# Altium schematic symbol library ADC_Klipper_Board_v2.SchLib: 21 symbols
Pins are listed as number, name and electrical type; pins without a type are passive.

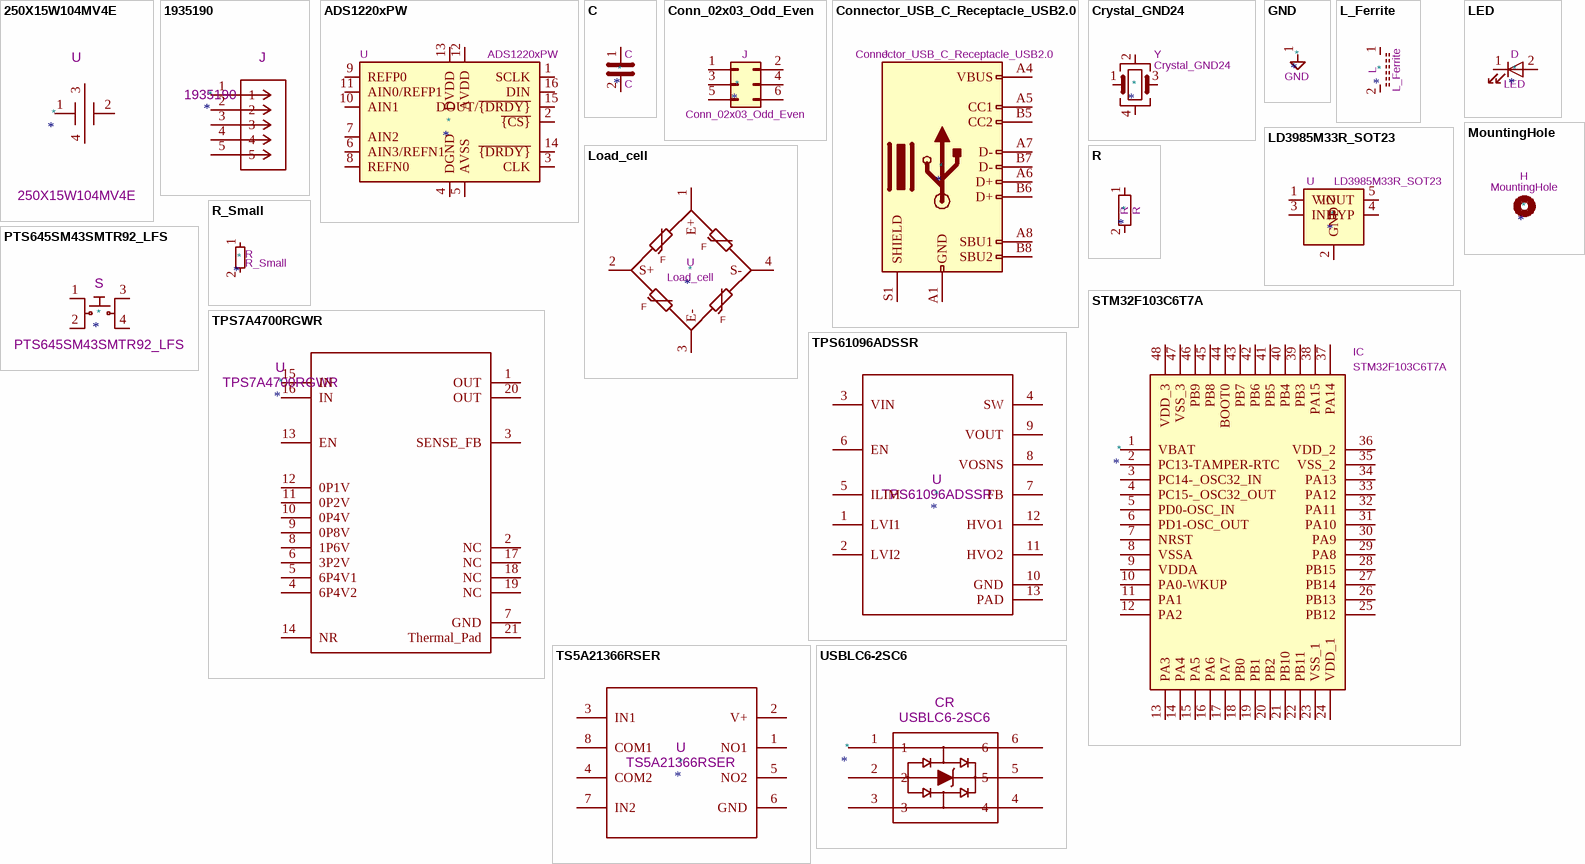
[diagram p0: symbols 250X15W104MV4E to USBLC6-2SC6]

## 250X15W104MV4E
designator *  value 250X15W104MV4E  Reference: U
ki_fp_filters: X15 X15-M X15-L; Footprint: X15; Datasheet: 250X15W104MV4E; ki_keywords: 250X15W104MV4E
pins: 1, 2, 3, 4

## 1935190
designator *  value 1935190  Reference: J
ki_fp_filters: CONN_1935190_PXC; Footprint: CONN_1935190_PXC; Datasheet: 1935190; ki_keywords: 1935190
pins: 1, 2, 3, 4, 5

## ADS1220xPW
designator *  value ADS1220xPW  Reference: U
Low-power, quad-input, 24-bit analog to digital converter, integrated temperature sensor, SPI interface, TSSOP-16 package; ki_keywords: adc spi; ki_fp_filters: *TSSOP*4.4x5mm*P0.65mm*; Footprint: Package_SO:TSSOP-16_4.4x5mm_P0.65mm; Datasheet: http://www.ti.com/lit/ds/symlink/ads1220.pdf; Description_: Low-power, quad-input, 24-bit analog to digital converter, integrated temperature sensor, SPI interface, TSSOP-16 package
pins: 1 SCLK, 2 ~{{CS}}, 3 CLK, 4 DGND, 5 AVSS, 6 AIN3/REFN1, 7 AIN2, 8 REFN0, 9 REFP0, 10 AIN1, 11 AIN0/REFP1, 12 AVDD, 13 DVDD, 14 ~{{DRDY}}, 15 DOUT/~{{DRDY}}, 16 DIN

## C
designator *  value C
Unpolarized capacitor; ki_keywords: cap capacitor; ki_fp_filters: C_*; Reference: C; Datasheet: ~; Description_: Unpolarized capacitor
pins: 1, 2

## Conn_02x03_Odd_Even
designator *  value Conn_02x03_Odd_Even  Reference: J
Generic connector, double row, 02x03, odd/even pin numbering scheme (row 1 odd numbers, row 2 even numbers), script generated (kicad-library-utils/schlib/autogen/connector/); ki_fp_filters: Connector*:*_2x??_*; Datasheet: ~; Description_: Generic connector, double row, 02x03, odd/even pin numbering scheme (row 1 odd numbers, row 2 even numbers), script generated (kicad-library-utils/schlib/autogen/connector/); ki_keywords: connector
pins: 1 Pin_1, 2 Pin_2, 3 Pin_3, 4 Pin_4, 5 Pin_5, 6 Pin_6

## Connector_USB_C_Receptacle_USB2.0
designator *  value Connector_USB_C_Receptacle_USB2.0  Reference: J
ki_fp_filters: USB*C*Receptacle*
pins: A1 GND, A4 VBUS, A5 CC1, A6 D+, A7 D-, A8 SBU1, A9 VBUS hidden, A12 GND hidden, B1 GND hidden, B4 VBUS hidden, B5 CC2, B6 D+, B7 D-, B8 SBU2, B9 VBUS hidden, B12 GND hidden, S1 SHIELD

## Crystal_GND24
designator *  value Crystal_GND24  Reference: Y
Four pin crystal, GND on pins 2 and 4; ki_keywords: quartz ceramic resonator oscillator; ki_fp_filters: Crystal*; Datasheet: ~; Description_: Four pin crystal, GND on pins 2 and 4
pins: 1, 2, 3, 4

## GND
designator *  value GND
Power symbol creates a global label with name "GND" , ground; Reference: #PWR; ki_keywords: global power; Description_: Power symbol creates a global label with name "GND" , ground
pins: 1

## L_Ferrite
designator *  value L_Ferrite  Reference: L
Inductor with ferrite core; ki_keywords: inductor choke coil reactor magnetic; ki_fp_filters: Choke_* *Coil* Inductor_* L_*; Datasheet: ~; Description_: Inductor with ferrite core
pins: 1, 2

## LD3985M33R_SOT23
designator *  value LD3985M33R_SOT23  Reference: U
150mA Low Dropout Voltage Regulator, Fixed Output 3.3V, SOT-23-5; ki_keywords: 150mA LDO Regulator Fixed Positive; ki_fp_filters: SOT?23*; Footprint: Package_TO_SOT_SMD:SOT-23-5; Datasheet: http://www.st.com/internet/com/TECHNICAL_RESOURCES/TECHNICAL_LITERATURE/DATASHEET/CD00003395.pdf; Description_: 150mA Low Dropout Voltage Regulator, Fixed Output 3.3V, SOT-23-5
pins: 1 VIN, 2 GND, 3 INH, 4 BYP, 5 VOUT

## LED
designator *  value LED  Reference: D
Light emitting diode; ki_keywords: LED diode; ki_fp_filters: LED* LED_SMD:* LED_THT:*; Datasheet: ~; Description_: Light emitting diode
pins: 1 K, 2 A

## Load_cell
designator *  value Load_cell  Reference: U
4-wire load cell for weigh scales; ki_keywords: Wheatstone bridge R res resistor FSR sensor; Datasheet: http://www.robotshop.com/media/files/pdf/datasheet-3134.pdf; Description_: 4-wire load cell for weigh scales
pins: 1 E+, 2 S+, 3 E-, 4 S-
text: F

## MountingHole
designator *  value MountingHole  Reference: H
Mounting Hole without connection; ki_fp_filters: MountingHole*; Datasheet: ~; Description_: Mounting Hole without connection; ki_keywords: mounting hole

## PTS645SM43SMTR92_LFS
designator *  value PTS645SM43SMTR92_LFS  Reference: S
SWITCH TACTILE SPST-NO 0.05A 12V; MPN: PTS645SM43SMTR92 LFS; Manufacturer: C&K; DK_Detail_Page: /product-detail/en/c-k/PTS645SM43SMTR92-LFS/CKN9112CT-ND/1146934; ki_keywords: CKN9112CT-ND PTS645; Footprint: digikey-footprints:Switch_Tactile_SMD_6x6mm_PTS645; Datasheet: https://www.ckswitches.com/media/1471/pts645.pdf; Description_: SWITCH TACTILE SPST-NO 0.05A 12V; Digi-Key_PN: CKN9112CT-ND; Category: Switches; Family: Tactile Switches; DK_Datasheet_Link: https://www.ckswitches.com/media/1471/pts645.pdf; Description_1: SWITCH TACTILE SPST-NO 0.05A 12V; Status: Active
pins: 1, 2, 3, 4

## R
designator *  value R
Resistor; ki_keywords: R res resistor; ki_fp_filters: R_*; Reference: R; Datasheet: ~; Description_: Resistor
pins: 1, 2

## R_Small
designator *  value R_Small  Reference: R
Resistor, small symbol; ki_keywords: R resistor; ki_fp_filters: R_*; Datasheet: ~; Description_: Resistor, small symbol
pins: 1, 2

## STM32F103C6T7A
designator *  value STM32F103C6T7A  Reference: IC
STM32F103C6T7A, 32 bit ARM Cortex M3 Microcontroller 72MHz 32 kB Flash, 10 kB RAM, USB CAN I2C 48-Pin LQFP; Manufacturer_Name: STMicroelectronics; Footprint: QFP50P900X900X160-48N; Datasheet: http://www.st.com/st-web-ui/static/active/en/resource/technical/document/datasheet/CD00210843.pdf; Description_: STM32F103C6T7A, 32 bit ARM Cortex M3 Microcontroller 72MHz 32 kB Flash, 10 kB RAM, USB CAN I2C 48-Pin LQFP; Height: 1.6; Manufacturer_Part_Number: STM32F103C6T7A; Mouser Part Number: 511-STM32F103C6T7A; Mouser Price/Stock: https://www.mouser.co.uk/ProductDetail/STMicroelectronics/STM32F103C6T7A?qs=SU4Xa%252BYHGQqu3yFVVzmi7g%3D%3D; Arrow Part Number: STM32F103C6T7A; Arrow Price/Stock: https://www.arrow.com/en/products/stm32f103c6t7a/stmicroelectronics?region=nac
pins: 1 VBAT, 2 PC13-TAMPER-RTC, 3 PC14-_OSC32_IN, 4 PC15-_OSC32_OUT, 5 PD0-OSC_IN, 6 PD1-OSC_OUT, 7 NRST, 8 VSSA, 9 VDDA, 10 PA0-WKUP, 11 PA1, 12 PA2, 13 PA3, 14 PA4, 15 PA5, 16 PA6, 17 PA7, 18 PB0, 19 PB1, 20 PB2, 21 PB10, 22 PB11, 23 VSS_1, 24 VDD_1, 25 PB12, 26 PB13, 27 PB14, 28 PB15, 29 PA8, 30 PA9, 31 PA10, 32 PA11, 33 PA12, 34 PA13, 35 VSS_2, 36 VDD_2, 37 PA14, 38 PA15, 39 PB3, 40 PB4, 41 PB5, 42 PB6, 43 PB7, 44 BOOT0, 45 PB8, 46 PB9, 47 VSS_3, 48 VDD_3

## TPS7A4700RGWR
designator *  value TPS7A4700RGWR  Reference: U
ki_fp_filters: RGW0020A-IPC_A RGW0020A-IPC_B RGW0020A-IPC_C RGW0020A-MFG; Footprint: RGW0020A-IPC_A; Datasheet: TPS7A4700RGWR; ki_keywords: TPS7A4700RGWR
pins: 1 OUT, 2 NC, 3 SENSE_FB, 4 6P4V2, 5 6P4V1, 6 3P2V, 7 GND, 8 1P6V, 9 0P8V, 10 0P4V, 11 0P2V, 12 0P1V, 13 EN, 14 NR, 15 IN, 16 IN, 17 NC, 18 NC, 19 NC, 20 OUT, 21 Thermal_Pad

## TPS61096ADSSR
designator *  value TPS61096ADSSR  Reference: U
ki_fp_filters: DSS0012A; Footprint: DSS0012A; Datasheet: TPS61096ADSSR; ki_keywords: TPS61096ADSSR
pins: 1 LVI1, 2 LVI2, 3 VIN, 4 SW, 5 ILIM, 6 EN, 7 FB, 8 VOSNS, 9 VOUT, 10 GND, 11 HVO2, 12 HVO1, 13 PAD

## TS5A21366RSER
designator *  value TS5A21366RSER  Reference: U
ki_fp_filters: RSE0008A; Footprint: RSE0008A; Datasheet: TS5A21366RSER; ki_keywords: TS5A21366RSER
pins: 1 NO1, 2 V+, 3 IN1, 4 COM2, 5 NO2, 6 GND, 7 IN2, 8 COM1

## USBLC6-2SC6
designator *  value USBLC6-2SC6  Reference: CR
ki_fp_filters: SOT23-6L_STM SOT23-6L_STM-M SOT23-6L_STM-L; Footprint: SOT23-6L_STM; Datasheet: USBLC6-2SC6; ki_keywords: USBLC6-2SC6
pins: 1, 2, 3, 4, 5, 6